# EAGLE library part MCP3208 (library adcLib)
Microchip MCP3208 8-bit ADC
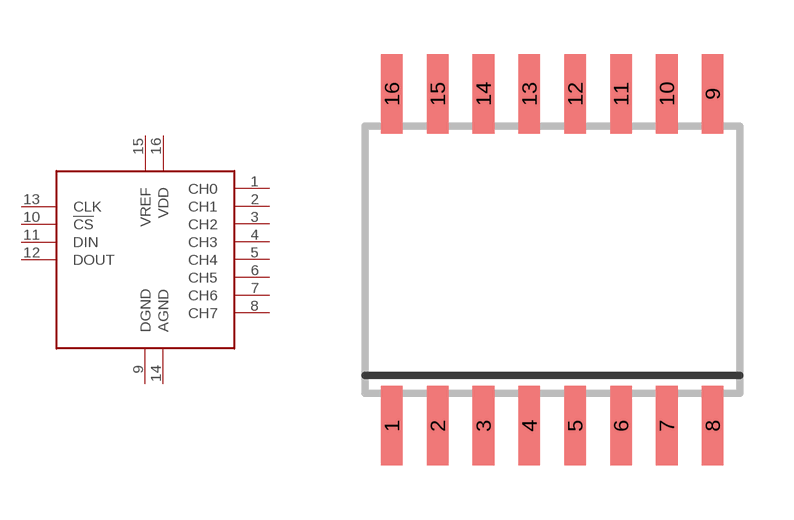
[diagram p6: symbol with the pads of SO-16DW; footprint SO-16DW]

Designator prefix -

## MCP3208I/SL  [SO-16DW]
1  CH0
2  CH1
3  CH2
4  CH3
5  CH4
6  CH5
7  CH6
8  CH7
9  DGND
10  !CS
11  DIN
12  DOUT
13  CLK
14  AGND
15  VREF
16  VDD

## Footprint SO-16DW (pad centres in mm)
Small Outline Integrated Circuit wide
smd 0.6 x 2.2: 1 -4.445,-4.6; 2 -3.175,-4.6; 3 -1.905,-4.6; 4 -0.635,-4.6; 5 0.635,-4.6; 6 1.905,-4.6; 7 3.175,-4.6; 8 4.445,-4.6; 9 4.445,4.6; 10 3.175,4.6; 11 1.905,4.6; 12 0.635,4.6; 13 -0.635,4.6; 14 -1.905,4.6; 15 -3.175,4.6; 16 -4.445,4.6